# Altium footprint library TP.PcbLib: 1 footprints
Each footprint in its own frame and in the unit in brackets; x right, y up, seen from the top. Pads: shape width x height; smd on the part's side, far side on the other; paste and mask are expansions set on the pad; w line width, h text height; cw(c..) or ccw(c..) is an arc to the next point about the centre after c.
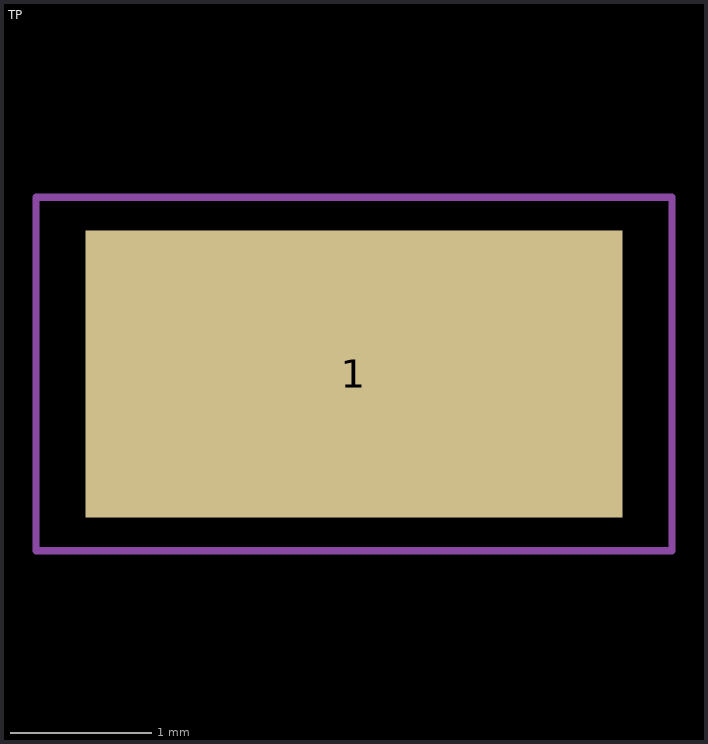
[diagram p0: the footprint, top view; thin cyan lines are the x and y axes]

## TP [mil]
pads (1):
  rect 149.61x79.92 smd: 1(560,285)
Mechanical 16:
  lines w1.97: 471.42,235.79 648.58,235.79 648.58,334.21 471.42,334.21 471.42,235.79